# Altium footprint library Resistors.PcbLib: 19 footprints (part 1 of 2)
Each footprint in its own frame and in the unit in brackets; x right, y up, seen from the top. Pads: shape width x height; smd on the part's side, far side on the other; paste and mask are expansions set on the pad; w line width, h text height; cw(c..) or ccw(c..) is an arc to the next point about the centre after c.
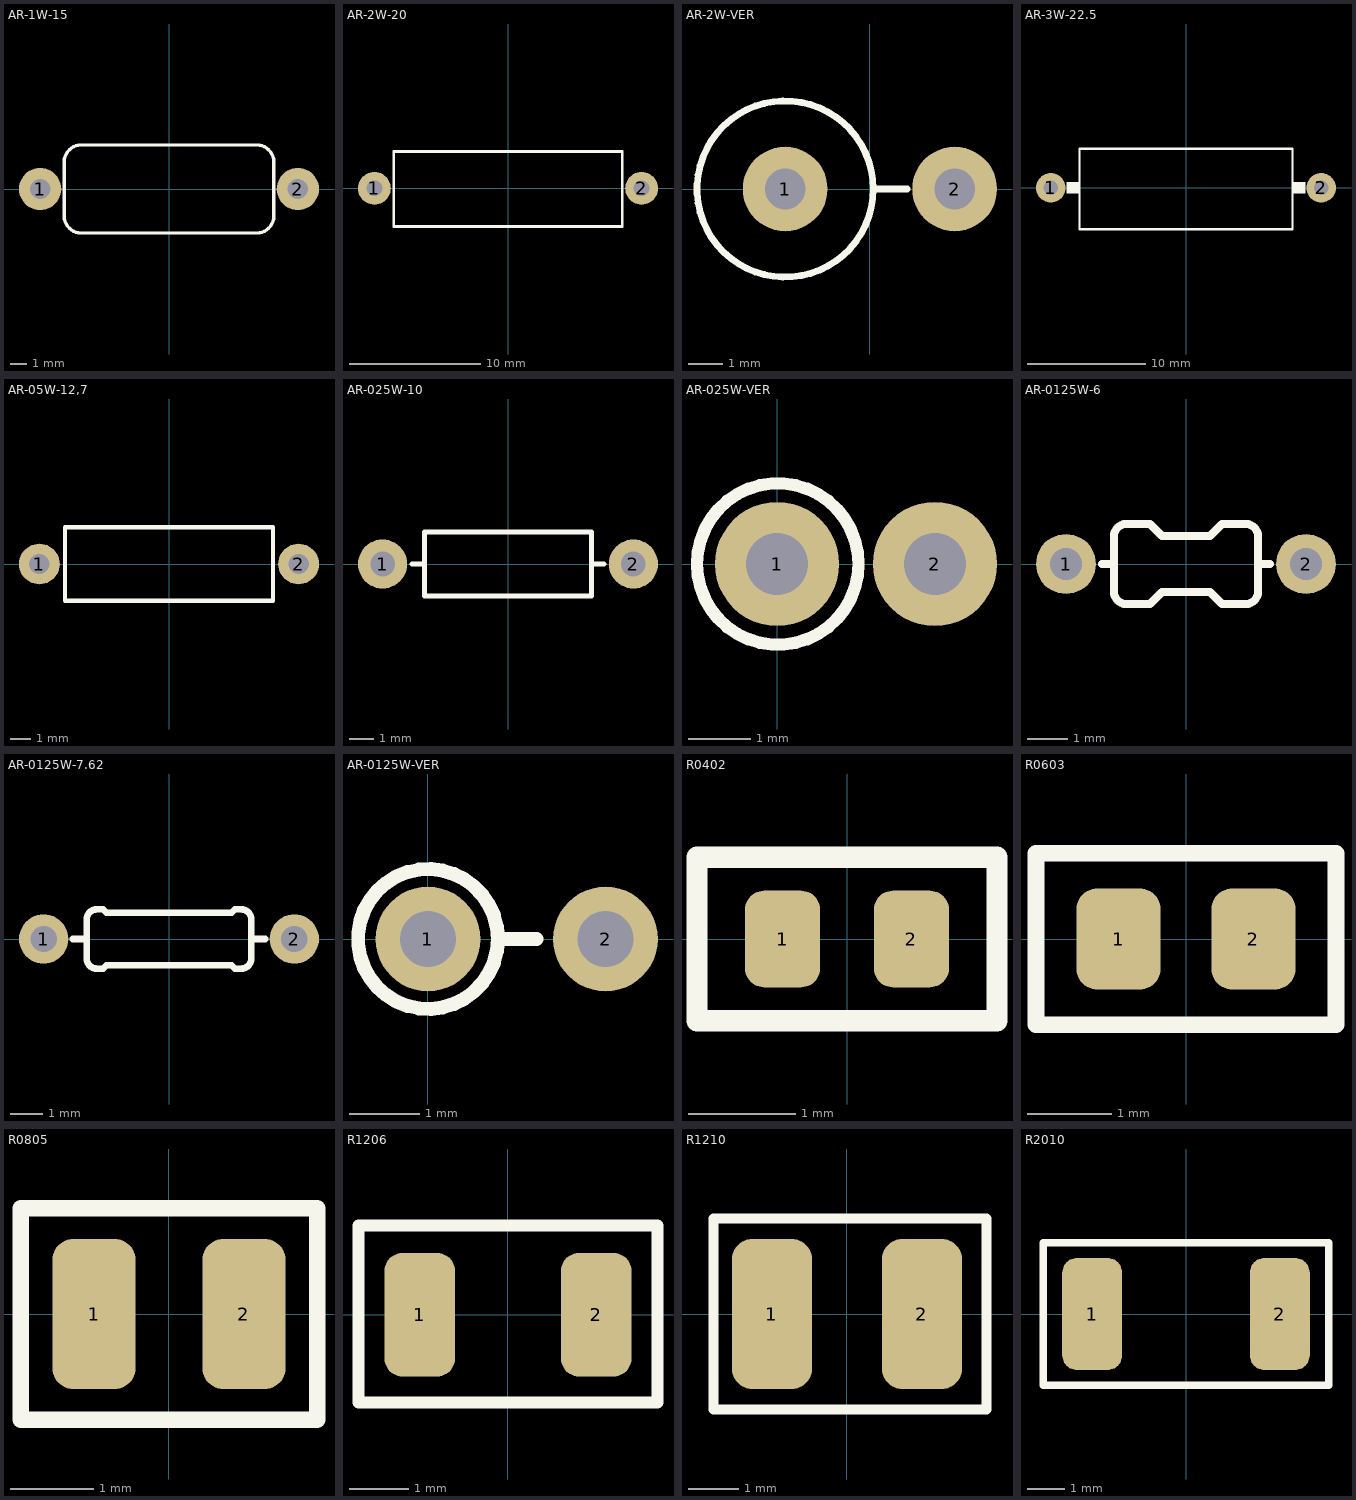
[diagram p0: the footprints below, top view; thin cyan lines are the x and y axes]

## AR-1W-15 [mm] "RESISTOR 1 WATT, AXIAL0.6"
height 5
pads (2):
  round 2.5 hole 1.2: 1(-7.62,0) 2(7.62,0)
Top Overlay:
  lines w0.2: -6.2,-1.6 ccw(c-5.2,-1.6) -5.2,-2.6 5.2,-2.6 ccw(c5.2,-1.6) 6.2,-1.6 6.2,1.6 ccw(c5.2,1.6) 5.2,2.6 -5.2,2.6 ccw(c-5.2,1.6) -6.2,1.6 -6.2,-1.6
3D body "User Library-RES-1W.STEP": height 5, standoff -3, extent -7.97,-2.494 7.97,2.506

## AR-2W-20 [mm] "RESISTOR 2 WATT, AXIAL0.8"
height 5.5
pads (2):
  round 2.5 hole 1.2: 1(-10.16,0) 2(10.16,0)
Top Overlay:
  lines w0.2: -8.7,-2.9 8.7,-2.9 8.7,2.8 -8.7,2.8 -8.7,-2.9
3D body "User Library-RES-2W.STEP": height 5.5, standoff -3, extent -10.51,-2.8 10.51,2.7

## AR-2W-VER [mm] "RESISTOR 2 WATT, AXIAL0.8"
height 5.5
pads (2):
  round 2.5 hole 1.2: 1(-2.5,0) 2(2.5,0)
Top Overlay:
  circle w0.2: c-2.5,0 r2.6
  lines w0.2: 0.191,0 1.1,0
3D body "User Library-RESAD500W80L1600D500_2W.STEP": height 20.3, standoff -3.1, extent -5,-2.5 2.9,2.5

## AR-3W-22.5 [mm] "RESISTOR 3 WATT, AXIAL0.9"
height 6.5
pads (2):
  round 2.5 hole 1.2: 1(-11.43,0) 2(11.43,0)
Top Overlay:
  rectangle: -10.1,-0.5 -9,0.5
  region: 10.1,0.5 9,0.5 9,-0.5 10.1,-0.5
  lines w0.2: -9,-3.5 9,-3.5 9,3.3 -9,3.3 -9,-3.5
3D body "User Library-RES-3W.STEP": height 6.5, standoff -3, extent -11.83,-3.3 11.83,3.2

## AR-05W-12,7 [mm] "RESISTOR 0.5 WATT, AXIAL0.5"
height 3.5
pads (2):
  round 2 hole 1: 1(-6.35,0) 2(6.35,0)
Top Overlay:
  lines w0.2: -5.1,-1.8 -5.1,1.8 5.1,1.8 5.1,-1.8 -5.1,-1.8
3D body "User Library-RES-1_5W.STEP": height 4.5, standoff -2, extent -6.62,-1.75 6.62,1.75

## AR-025W-10 [mm] "RESISTOR 1/4 WATT, AXIAL0.4"
pads (2):
  round 2 hole 1: 1(-5.1,0) 2(5.1,0)
Top Overlay:
  lines w0.2: -3.9,0 -3.4,0 ; 3.375,-1.3 -3.4,-1.3 -3.4,1.3 3.375,1.3 ; 3.4,-1.3 3.4,1.3 ; 3.4,0 3.9,0
3D body "RESTH_Axial-0.4.STEP": height 2.6, standoff -2.54, extent -5.38,-1.277 5.38,1.277

## AR-025W-VER [mm] "RESISTOR 1/4 WATT, AXIAL0.4"
pads (2):
  round 2 hole 1: 1(0,0) 2(2.54,0)
Top Overlay:
  circle w0.2: c0.01,0 r1.3
3D body "User Library-RESAD250W60L650D230_0_25W.STEP": height 9.83, standoff -2.47, extent -1.136,-1.15 2.81,1.15

## AR-0125W-6 [mm] "RESISTOR 1/8 WATT, AXIAL0.25"
pads (2):
  round 1.5 hole 0.8: 1(-3,0) 2(3,0)
Top Overlay:
  lines w0.2: -2.1,0 -1.8,0 ; 1.8,0 2.1,0 ; -1.8,-0.7 ccw(c-1.5,-0.7) -1.5,-1 -0.9,-1 -0.6,-0.7 0.6,-0.7 0.9,-1 1.5,-1 ccw(c1.5,-0.7) 1.8,-0.7 1.8,0.7 ccw(c1.5,0.7) 1.5,1 0.9,1 0.6,0.7 -0.6,0.7 -0.9,1 -1.5,1 ccw(c-1.5,0.7) -1.8,0.7 -1.8,-0.7
3D body "User Library-Res_1-8w_1_0.step": height 1.9, standoff -2, extent -3.2,-0.9 3.2,0.9

## AR-0125W-7.62 [mm] "RESISTOR 1/8 WATT, AXIAL0.3 INCH SPACING"
pads (2):
  round 1.5 hole 0.8: 1(-3.81,0) 2(3.81,0)
Top Overlay:
  lines w0.2: -2.921,0 -2.5,0 ; 2.5,0 2.921,0 ; -2.5,-0.6 ccw(c-2.2,-0.6) -2.2,-0.9 -2,-0.9 -1.9,-0.8 1.9,-0.8 2,-0.9 2.2,-0.9 ccw(c2.2,-0.6) 2.5,-0.6 2.5,0.6 ccw(c2.2,0.6) 2.2,0.9 2,0.9 1.9,0.8 -1.9,0.8 -2,0.9 -2.2,0.9 ccw(c-2.2,0.6) -2.5,0.6 -2.5,-0.6
3D body "1M.STEP": height 1.85, standoff -3, extent -4.16,-0.85 4.16,0.85

## AR-0125W-VER [mm] "RESISTOR 1/8 WATT, AXIAL0.25"
pads (2):
  round 1.5 hole 0.8: 1(0,0) 2(2.54,0)
Top Overlay:
  circle w0.2: c0,0 r1
  lines w0.2: 1,0 1.55,0
3D body "User Library-RESAD250W50L320D180_0_125W.STEP": height 6.65, standoff -2.6, extent -0.9,-0.9 2.75,0.9

## R0402 [mm]
height 0.55
pads (2):
  rrect50% 0.7x0.9 smd: 1(-0.6,0) 2(0.6,0)
Top Overlay:
  lines w0.2: -1.397,-0.762 -1.397,0.762 1.397,0.762 1.397,-0.762 -1.397,-0.762
3D body "RES0402.stp": height 0.3, standoff 0, extent -0.5,-0.25 0.5,0.25

## R0603 [mm] "Р1-12-0,062 Вт// Масса 0,005г// UMI"
height 0.65
pads (2):
  rrect50% 1x1.2 smd: 1(-0.8,0) 2(0.8,0)
Top Overlay:
  lines w0.2: -1.778,-1.016 -1.778,1.016 1.778,1.016 1.778,-1.016 -1.778,-1.016
3D body "0603.STEP": height 0.45, standoff 0, extent -0.8,-0.4 0.8,0.4

## R0805 [mm] "Р1-12-0,125 Вт// Масса 0,006г// UMI"
height 0.6
pads (2):
  rrect50% 1x1.8 smd: 1(-0.9,0) 2(0.9,0)
Top Overlay:
  lines w0.2: -1.778,-1.27 -1.778,1.27 1.778,1.27 1.778,-1.27 -1.778,-1.27
3D body "R0805.STEP": height 0.6, standoff 0, extent -1,-0.626 1,0.626

## R1206 [mm] "Р1-12-0,25 Вт// Р1-16-0,125 Вт // Масса 0,015г // UMI"
height 0.6
pads (2):
  rrect50% 1.2x2.1 smd: 1(-1.5,0) 2(1.5,0)
Top Overlay:
  lines w0.2: -2.54,-1.492 -2.54,1.517 2.54,1.517 2.54,-1.492 -2.54,-1.492
3D body "R1206.STEP": height 0.6, standoff 0, extent -1.55,-0.776 1.55,0.776

## R1210 [mm] "Высота: 0,55...1,9мм // Масса 0,023г // UMI"
height 0.6
pads (2):
  rrect50% 1.6x3 smd: 1(-1.5,0) 2(1.5,0)
Top Overlay:
  lines w0.2: -2.667,-1.905 -2.667,1.905 2.794,1.905 2.794,-1.905 -2.667,-1.905
3D body "R1210.STEP": height 0.6, standoff 0, extent -1.55,-1.301 1.55,1.301

## R2010 [mm] "Р1-12-0,5 Вт// Р1-16-0,25 Вт // Масса 0,04г// UMI"
height 0.8
pads (2):
  rrect50% 1.6x3 smd: 1(-2.5,0) 2(2.5,0)
Top Overlay:
  lines w0.2: -3.81,-1.905 3.81,-1.905 3.81,1.905 -3.81,1.905 -3.81,-1.905
3D body "R2010.STEP": height 0.6, standoff 0, extent -2.5,-1.252 2.5,1.25